# Altium footprint library CAPC3225X178N.PcbLib: 1 footprints
Each footprint in its own frame and in the unit in brackets; x right, y up, seen from the top. Pads: shape width x height; smd on the part's side, far side on the other; paste and mask are expansions set on the pad; w line width, h text height; cw(c..) or ccw(c..) is an arc to the next point about the centre after c.
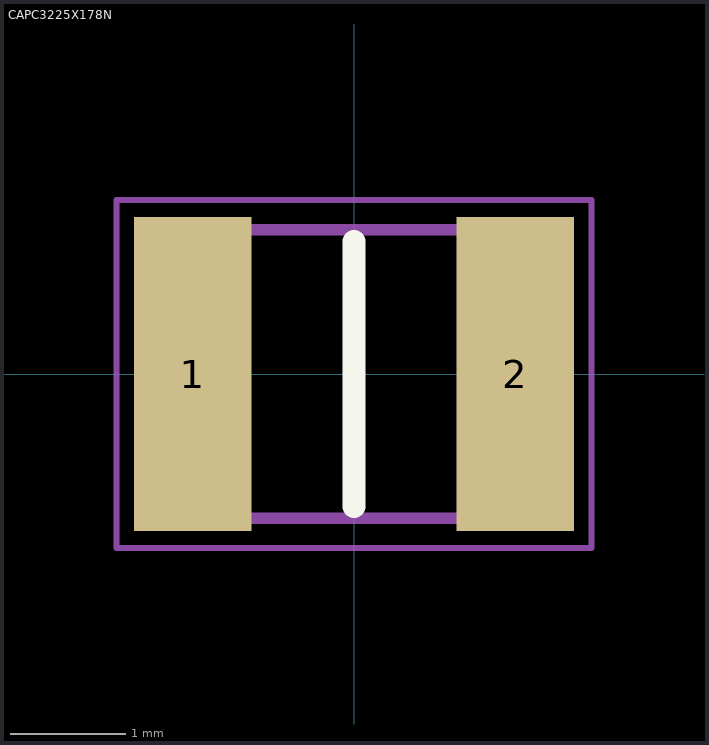
[diagram p0: the footprint, top view; thin cyan lines are the x and y axes]

## CAPC3225X178N [mm]
pads (2):
  rect 1.02x2.72 smd: 1(-1.4,0) 2(1.4,0)
Top Overlay:
  lines w0.2: 0,-1.15 0,1.15
Mechanical 15:
  lines w0.1: -1.6,-1.25 1.6,-1.25 1.6,1.25 -1.6,1.25 -1.6,-1.25
Mechanical 20:
  lines w0.05: -2.06,-1.51 2.06,-1.51 2.06,1.51 -2.06,1.51 -2.06,-1.51